# Altium footprint library 53398-0471.PcbLib: 1 footprints
Each footprint in its own frame and in the unit in brackets; x right, y up, seen from the top. Pads: shape width x height; smd on the part's side, far side on the other; paste and mask are expansions set on the pad; w line width, h text height; cw(c..) or ccw(c..) is an arc to the next point about the centre after c.
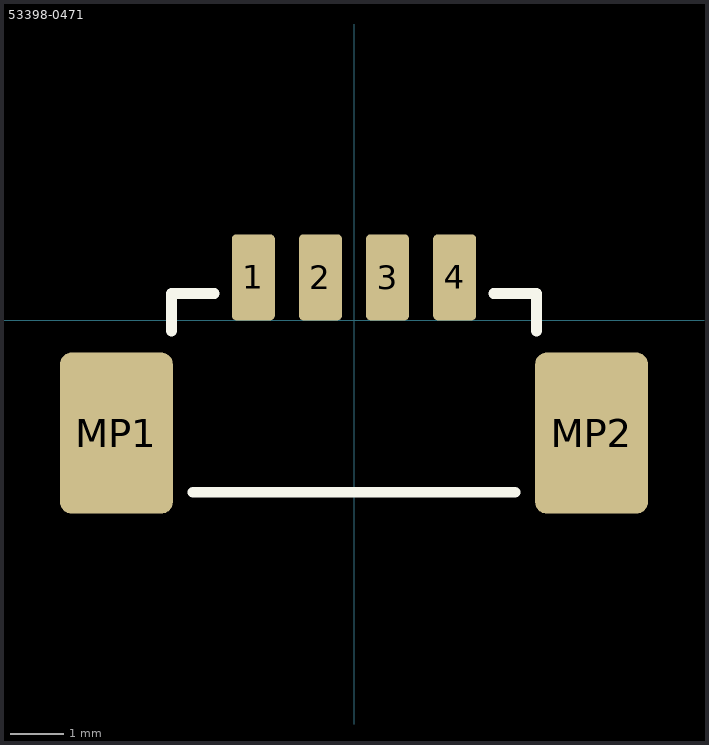
[diagram p0: the footprint, top view; thin cyan lines are the x and y axes]

## 53398-0471 [mm]
pads (6):
  rrect20% 0.8x1.6 smd: 1(-1.875,0.8) 2(-0.625,0.8) 3(0.625,0.8) 4(1.875,0.8)
  rrect20% 2.1x3 smd: MP1(-4.425,-2.1) MP2(4.425,-2.1)
Top Overlay:
  lines w0.2: -3.4,-0.2 -3.4,0.5 -2.6,0.5 ; -3,-3.2 3,-3.2 ; 2.6,0.5 3.4,0.5 ; 3.4,-0.2 3.4,0.5 ; 3.4,0.5 3.4,0.5
3D body "User Library-molex 53398-04.step": height 4.7, standoff 0, extent -5.075,-3.2 5.075,1